# Altium schematic symbol library IC-Sensors.SchLib: 2 symbols
Pins are listed as number, name and electrical type; pins without a type are passive.

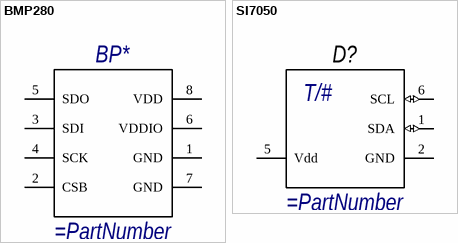
[diagram p0: symbols BMP280 to SI7050]

## BMP280
designator BP*
Bosch BPM280 pressure sensor
pins: 1 GND (power), 2 CSB (power), 3 SDI (power), 4 SCK (power), 5 SDO (power), 6 VDDIO (power), 7 GND (power), 8 VDD (power)

## SI7050
designator D?
I2C Temperature sensor
pins: 1 SDA (io), 2 GND (power), 5 Vdd (power), 6 SCL (io)
text: T/#